# EAGLE library part 687130144821 (library Wuerth_Elektronik_eiCan_03_ZIF_Connectors_&_Flat_Flexible_Cable)
WR-FPC 0.5mm SMT ZIF Horizontal Bottom Contact Low Profil 1.2mm Height, 30 Pins
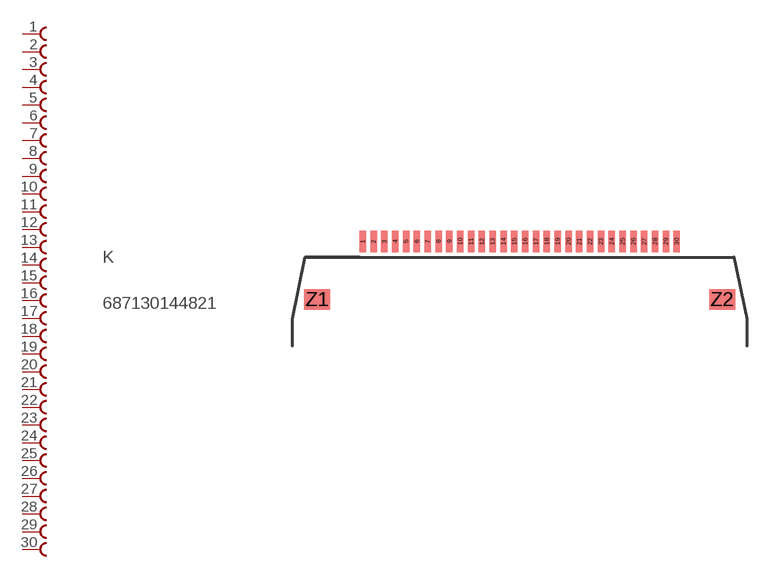
[diagram p14: symbol with the pads of 687130144821; footprint 687130144821]

Designator prefix K

## 687130144821  [687130144821]
1  1  pas
2  2  pas
3  3  pas
4  4  pas
5  5  pas
6  6  pas
7  7  pas
8  8  pas
9  9  pas
10  10  pas
11  11  pas
12  12  pas
13  13  pas
14  14  pas
15  15  pas
16  16  pas
17  17  pas
18  18  pas
19  19  pas
20  20  pas
21  21  pas
22  22  pas
23  23  pas
24  24  pas
25  25  pas
26  26  pas
27  27  pas
28  28  pas
29  29  pas
30  30  pas

## Footprint 687130144821 (pad centres in mm)
WR-FPC 0.5mm SMT ZIF Horizontal Bottom Contact Low Profil 1.2mm Height, 30 Pins
smd 0.3 x 1: 1 -7.25,4.825; 2 -6.75,4.825; 3 -6.25,4.825; 4 -5.75,4.825; 5 -5.25,4.825; 6 -4.75,4.825; 7 -4.25,4.825; 8 -3.75,4.825; 9 -3.25,4.825; 10 -2.75,4.825; 11 -2.25,4.825; 12 -1.75,4.825; 13 -1.25,4.825; 14 -0.75,4.825; 15 -0.25,4.825; 16 0.25,4.825; 17 0.75,4.825; 18 1.25,4.825; 19 1.75,4.825; 20 2.25,4.825; 21 2.75,4.825; 22 3.25,4.825; 23 3.75,4.825; 24 4.25,4.825; 25 4.75,4.825; 26 5.25,4.825; 27 5.75,4.825; 28 6.25,4.825; 29 6.75,4.825; 30 7.25,4.825
smd 1.2 x 0.95: Z1 -9.35,2.15; Z2 9.35,2.15